# Altium schematic symbol library 3.Inductors.SchLib: 32 symbols
Pins are listed as number, name and electrical type; pins without a type are passive.

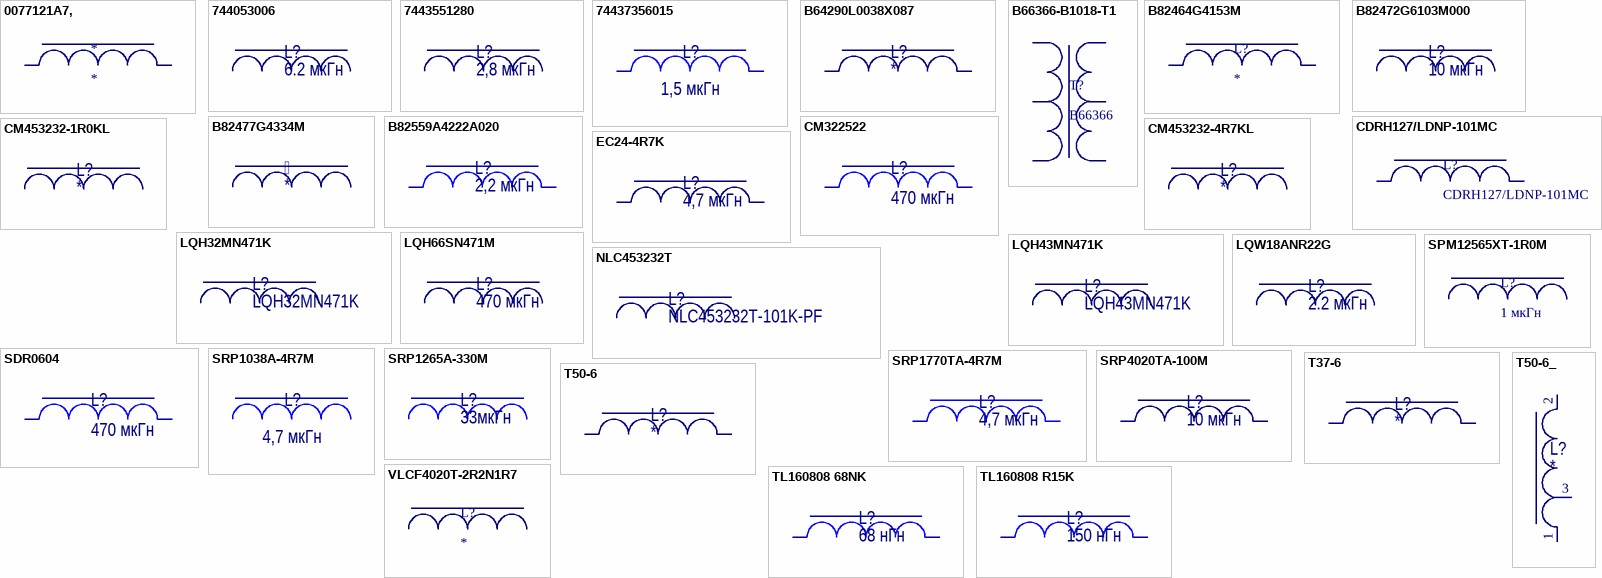
[diagram p0: symbols 0077121A7, to VLCF4020T-2R2N1R7]

## 0077121A7,
designator *
R 16.6 x 10.2 x 6.35 Kool Mu Сердечник
footprint 0077121A7
pins: 1, 2

## 744053006
designator L?, comment 6.2 мкГн
6.2 мкГн, 2.2 А
footprint 744053006 (WE-TPC SMD Shielded Tiny Power Inductor)
pins: 1, 2

## 7443551280
designator L?, comment 2,8 мкГн
20A
footprint 1365
pins: 1, 2

## 74437356015
designator L?, comment 1,5 мкГн
footprint 8030
pins: 1, 2

## B64290L0038X087
designator L?
footprint B64290L0038X087
pins: 1, 2

## B66366-B1018-T1
designator T?, comment B66366
B66366-B1018-T1
footprint B66366B1018T1
pins: 1, 2, 3, 4, 5, 6 1

## B82464G4153M
designator L?
15 uH, 2.75 А 20%
footprint INDPM104104X480N
pins: 1, 2

## B82472G6103M000
designator L?, comment 10 мкГн
10 мкГн, 1.9 А, 7X 7
footprint SMT_7_7mm
pins: 1, 2

## B82477G4334M
designator 
330 мкГн, 0.95 А, 12.8х12.8, Катушка индуктивности SMD
footprint b82477g (Precision Wire Wound Inductor, 2-Leads, Body 12.80x12.80mm, IPC Medium Density)
pins: 1, 2

## B82559A4222A020
designator L?, comment 2,2 мкГн
footprint ERU 20
pins: 2, 3

## CDRH127/LDNP-101MC
designator L?
SMD индуктивность 100 мкГн 20% 2.1А
footprint 1212
pins: 1, 2

## CM322522
designator L?, comment 470 мкГн
footprint CM322522 (1210)
pins: 1, 2

## CM453232-1R0KL
designator L?
1.0 мкГн, 1812, Индуктивность SMD
footprint L_1812
pins: 1, 2

## CM453232-4R7KL
designator L?
footprint L_1812
pins: 1, 2

## EC24-4R7K
designator L?, comment 4,7 мкГн
footprint EC24
pins: 1, 2

## LQH32MN471K
designator L?
470 мкГн, 1210, 10%
pins: 1, 2

## LQH43MN471K
designator L?
470 мкГн, 1812, 10%, Индуктивность SMD
footprint L_1812_V2
pins: 1, 2

## LQH66SN471M
designator L?, comment 470 мкГн
470 мкГн, 2525, 20%, Индуктивность SMD
footprint L_2525
pins: 1, 2

## LQW18ANR22G
designator L?, comment 2.2 мкГн
0.22 мкГн, 0603, 2%
footprint LQW18A
pins: 1, 2

## NLC453232T
designator L?, comment NLC453232T-101K-PF
footprint NLC453232T
pins: 1, 2

## SDR0604
designator L?, comment 470 мкГн
footprint SDR0604
pins: 1, 2

## SPM12565XT-1R0M
designator L?, comment 1 мкГн
1 мкГн, 42 А, 20 %
footprint SPM12565XT-1R0M
pins: 1, 2

## SRP1038A-4R7M
designator L?, comment 4,7 мкГн
footprint SRP1038A
pins: 1, 2

## SRP1265A-330M
designator L?, comment 33мкГн
33мкГн 8А; ComponentLink1Description: ds; ComponentLink1URL: https://www.terraelectronica.ru/pdf/show?pdf_file=http%253A%252F%252Fwww.farnell.com%252Fdatasheets%252F2059704.pdf
footprint SRP1265A
footprint inductor
pins: 1, 2

## SRP1770TA-4R7M
designator L?, comment 4,7 мкГн
footprint SRP1770TA
pins: 1, 2

## SRP4020TA-100M
designator L?, comment 10 мкГн
footprint SRP4020TA
pins: 1, 2

## T37-6
designator L?
footprint t37
footprint t37_2
pins: 1, 2

## T50-6
designator L?
footprint T50-6
footprint T50-6_2
pins: 1, 2

## T50-6_
designator L?
footprint T50-6_2_TRANS
pins: 1, 2, 3

## TL160808 68NK
designator L?, comment 68 нГн
footprint L_0603 (Chip Inductor, 2-Leads, Body 1,60x0,80mm, IPC Medium Density)
pins: 1, 2

## TL160808 R15K
designator L?, comment 150 нГн
footprint L_0603 (Chip Inductor, 2-Leads, Body 1,60x0,80mm, IPC Medium Density)
pins: 1, 2

## VLCF4020T-2R2N1R7
designator L?
Inductor; Manufacturer_Name: TDK; Manufacturer_Part_Number: VLCF4020T-2R2N1R7; Datasheet Link: https://product.tdk.com/system/files/dam/doc/product/inductor/inductor/smd/catalog/inductor_commercial_power_vlcf4020_en.pdf; Mouser Part Number: 810-VLCF4020T2R2N1R7; Mouser Price/Stock: https://www.mouser.co.uk/ProductDetail/TDK/VLCF4020T-2R2N1R7?qs=O2qRfqcg9D%252B6mk3XbPg%2FgA%3D%3D; Arrow Part Number: VLCF4020T-2R2N1R7; Arrow Price/Stock: https://www.arrow.com/en/products/vlcf4020t-2r2n1r7/tdk?region=nac
footprint VLCF4020 (Footprint not found)
pins: 1, 2